# Altium schematic symbol library 76SD01T.SchLib: 1 symbol
Pins are listed as number, name and electrical type; pins without a type are passive.

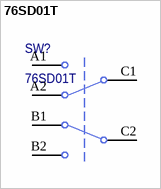
[diagram p0: symbol 76SD01T]

## 76SD01T
designator SW?
pins: A1, A2, B1, B2, C1, C2